# Altium schematic symbol library ADP172.SchLib: 1 symbol
Pins are listed as number, name and electrical type; pins without a type are passive.

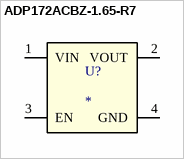
[diagram p0: symbol ADP172ACBZ-1.65-R7]

## ADP172ACBZ-1.65-R7
designator U?
footprint 4-Ball WLCSP; pin to pad 1>A1 2>A2 3>B1 4>B2
pins: 1 VIN, 2 VOUT, 3 EN, 4 GND